# EAGLE library part L6920 (library st-microelectronics_modified)
STEP UP CONVERTER 1V HIGH EFFICIENCY SYNCRONOUS
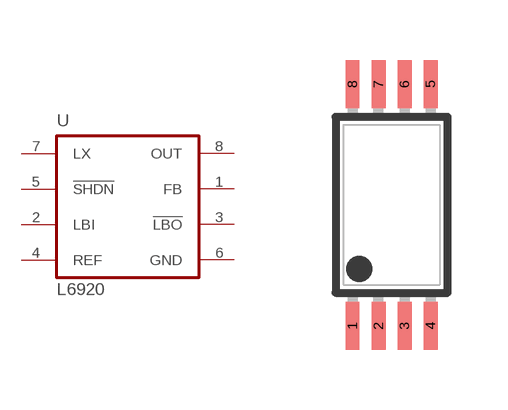
[diagram p35: symbol with the pads of TSSOP8; footprint TSSOP8]

Designator prefix U

## L6920D  [TSSOP8]
1  FB  in
2  LBI  pas
3  !LBO!  out
4  REF  out
5  !SHDN!  in
6  GND  pwr
7  LX  in
8  OUT  out

## Footprint TSSOP8 (pad centres in mm)
Thin Shrink Small Outline Plastic 8 body 4.4 mm
smd 0.35 x 1.2: 1 -0.975,-3.025; 2 -0.325,-3.025; 3 0.325,-3.025; 4 0.975,-3.025; 5 0.975,3.025; 6 0.325,3.025; 7 -0.325,3.025; 8 -0.975,3.025